# EAGLE library part CONN_USB_PTH_PAD (library vikc-connector)
USB B type Micro Connector
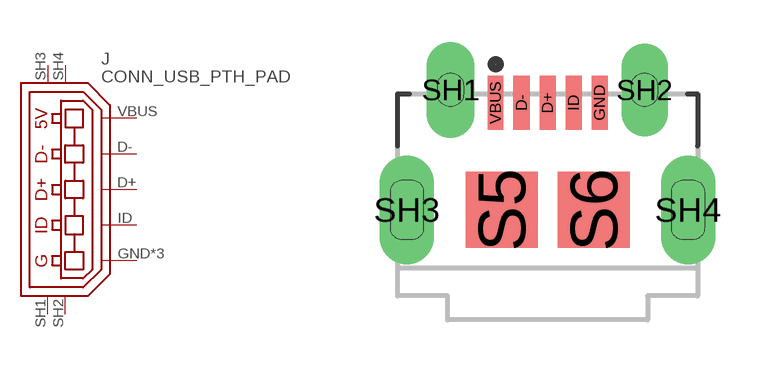
[diagram p12: symbol with the pads of USB-MICROB-PTH-PAD; footprint USB-MICROB-PTH-PAD]

Designator prefix J

## CONN_USB_PTH_PAD  [USB-MICROB-PTH-PAD]
D+  D+
D-  D-
GND  GND
ID  ID
S5  GND
S6  GND
SH1  SHIELD1
SH2  SHIELD2
SH3  SHIELD3
SH4  SHIELD4
VBUS  VBUS

## Footprint USB-MICROB-PTH-PAD (pad centres in mm)
smd 0.4 x 1.35: D+ 0,2.675; D- -0.65,2.675; GND 1.3,2.675; ID 0.65,2.675; VBUS -1.3,2.675
smd 1.8 x 1.9: S5 -1.15,0; S6 1.15,0
drill 0.65 pad 1.2 long: SH1 -2.425,3
drill 0.65 long: SH2 2.425,3
drill 0.85 long: SH3 -3.513,0; SH4 3.513,0